# EAGLE library part DAC1220 (library FTIR)
20-Bit, Low-Power Digital-to-Analog Converter
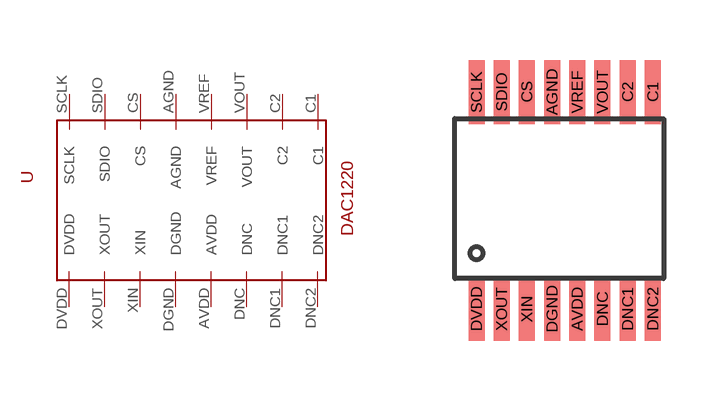
[diagram p0: symbol with the pads of SSOP-16; footprint SSOP-16]

Designator prefix -

## DAC1220  [SSOP-16]
AGND  AGND
AVDD  AVDD
C1  C1
C2  C2
CS  CS
DGND  DGND
DNC  DNC
DNC1  DNC1
DNC2  DNC2
DVDD  DVDD
SCLK  SCLK
SDIO  SDIO
VOUT  VOUT
VREF  VREF
XIN  XIN
XOUT  XOUT

## Footprint SSOP-16 (pad centres in mm)
smd 0.4 x 1.6: AGND 1.89,2.134; AVDD 2.52,-3.3; C1 4.409,2.134; C2 3.78,2.134; CS 1.26,2.134; DGND 1.89,-3.3; DNC 3.15,-3.3; DNC1 3.78,-3.3; DNC2 4.409,-3.3; DVDD 0,-3.3; SCLK 0,2.134; SDIO 0.63,2.134; VOUT 3.15,2.134; VREF 2.52,2.134; XIN 1.26,-3.3; XOUT 0.63,-3.3